# EAGLE library part LD39200PU33R (library LD39200PU33R)
LDO Voltage Regulators 2 A high PSRR ultra low drop linear regulator with reverse current protection Source: Datasheet <https://www.st.com/resource/en/datasheet/ld39200.pdf>
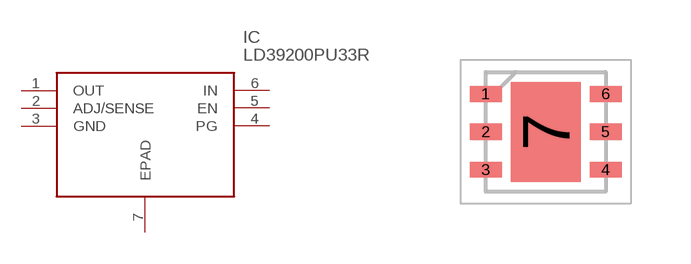
[diagram p0: symbol with the pads of SON95P300X300X100-7N; footprint SON95P300X300X100-7N]

Designator prefix IC

## LD39200PU33R (Description: LDO Voltage Regulators 2 A high PSRR ultra low drop linear regulator with reverse current protection; Height: 1mm; Manufacturer_Name: STMicroelectronics; Manufacturer_Part_Number: LD39200PU33R; Mouser_Part_Number: 511-LD39200PU33R; Mouser_Price-Stock: https://www.mouser.com/Search/Refine.aspx?Keyword=511-LD39200PU33R)  [SON95P300X300X100-7N]
1  OUT
2  ADJ/SENSE
3  GND
4  PG
5  EN
6  IN
7  EPAD

## Footprint SON95P300X300X100-7N (pad centres in mm)
DFN6 (3x3)
smd 0.8 x 0.4: 1 -1.5,0.95; 2 -1.5,0; 3 -1.5,-0.95; 4 1.5,-0.95; 5 1.5,0; 6 1.5,0.95
smd 1.75 x 2.5: 7 0,0